# Altium footprint library Connector - FFC_FPC.PcbLib: 57 footprints (part 4 of 4)
Each footprint in its own frame and in the unit in brackets; x right, y up, seen from the top. Pads: shape width x height; smd on the part's side, far side on the other; paste and mask are expansions set on the pad; w line width, h text height; cw(c..) or ccw(c..) is an arc to the next point about the centre after c.
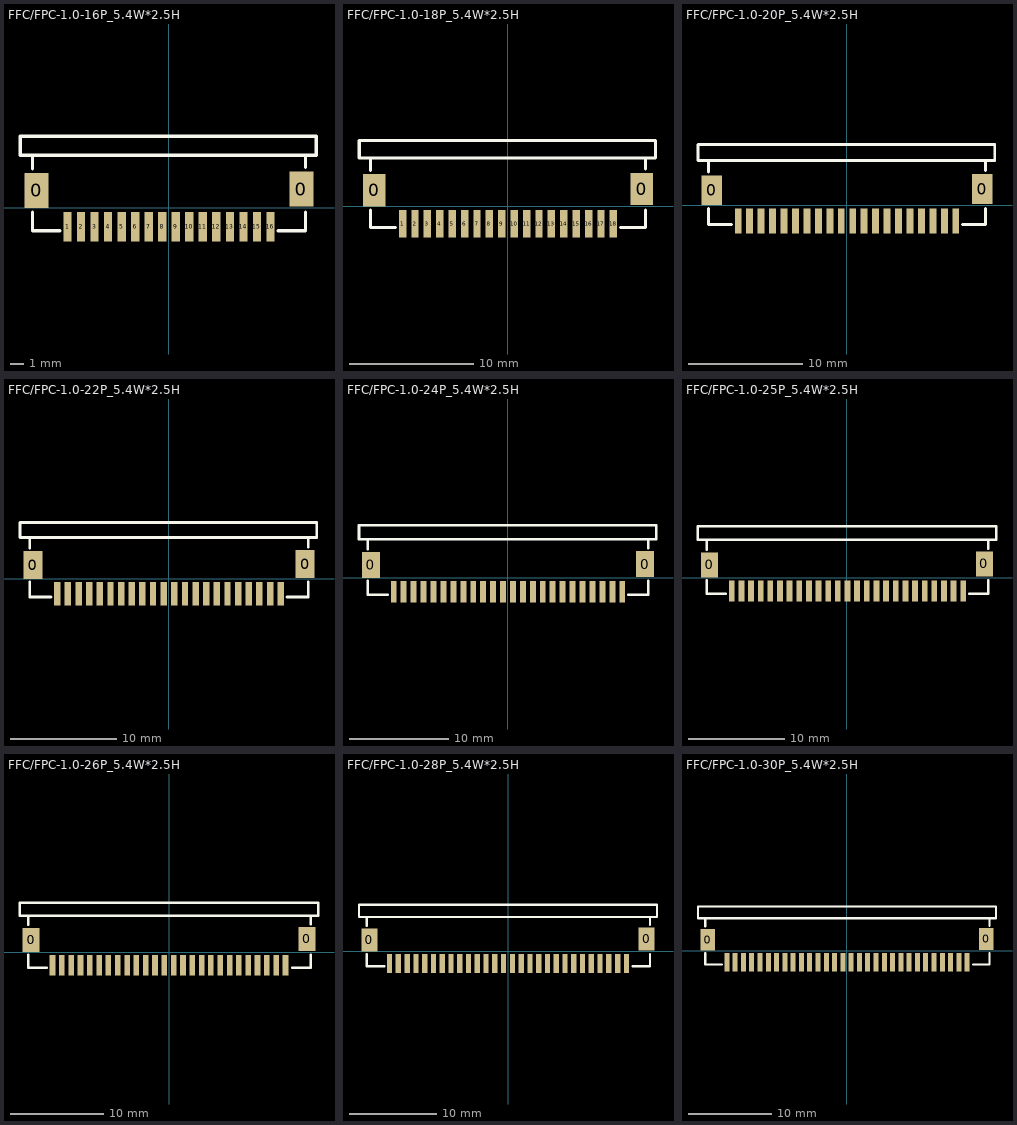
[diagram p3: the footprints below, top view; thin cyan lines are the x and y axes]

## FFC/FPC-1.0-16P_5.4W*2.5H [mm]
pads (18):
  rect 1.8x2.6 smd: 0(-9.8,1.3) 0(9.8,1.4)
  rect 0.6x2.2 smd: 1(-7.5,-1.4) 2(-6.5,-1.4) 3(-5.5,-1.4) 4(-4.5,-1.4) 5(-3.5,-1.4) 6(-2.5,-1.4) 7(-1.5,-1.4) 8(-0.5,-1.4) 9(0.5,-1.4) 10(1.5,-1.4) 11(2.5,-1.4) 12(3.5,-1.4) 13(4.5,-1.4) 14(5.5,-1.4) 15(6.5,-1.4) 16(7.5,-1.4)
Top Overlay:
  lines w0.254: -10.1,-0.3 -10.1,-1.7 -8.1,-1.7 ; -10.1,2.9 -10.1,3.9 ; 8.1,-1.7 10.1,-1.7 10.1,-0.3 ; 10.1,3 10.1,3.9 ; -10.1,3.9 -1.9,3.9 10.9,3.9 10.9,5.3 -3.2,5.3 -8.7,5.3 -11,5.3 -11,3.9 -10.1,3.9

## FFC/FPC-1.0-18P_5.4W*2.5H [mm]
pads (20):
  rect 1.8x2.6 smd: 0(-10.8,1.3) 0(10.8,1.4)
  rect 0.6x2.2 smd: 1(-8.5,-1.4) 2(-7.5,-1.4) 3(-6.5,-1.4) 4(-5.5,-1.4) 5(-4.5,-1.4) 6(-3.5,-1.4) 7(-2.5,-1.4) 8(-1.5,-1.4) 9(-0.5,-1.4) 10(0.5,-1.4) 11(1.5,-1.4) 12(2.5,-1.4) 13(3.5,-1.4) 14(4.5,-1.4) 15(5.5,-1.4) 16(6.5,-1.4) 17(7.5,-1.4) 18(8.5,-1.4)
Top Overlay:
  lines w0.254: -11.1,-0.3 -11.1,-1.7 -9.1,-1.7 ; -11.1,2.9 -11.1,3.9 ; 9.1,-1.7 11.1,-1.7 11.1,-0.3 ; 11.1,3 11.1,3.9 ; -11.1,3.9 -2.9,3.9 11.9,3.9 11.9,5.3 -4.2,5.3 -9.7,5.3 -12,5.3 -12,3.9 -11.1,3.9

## FFC/FPC-1.0-20P_5.4W*2.5H [mm]
pads (22):
  rect 1.8x2.6 smd: 0(-11.8,1.3) 0(11.8,1.4)
  rect 0.6x2.2 smd: 1(-9.5,-1.4) 2(-8.5,-1.4) 3(-7.5,-1.4) 4(-6.5,-1.4) 5(-5.5,-1.4) 6(-4.5,-1.4) 7(-3.5,-1.4) 8(-2.5,-1.4) 9(-1.5,-1.4) 10(-0.5,-1.4) 11(0.5,-1.4) 12(1.5,-1.4) 13(2.5,-1.4) 14(3.5,-1.4) 15(4.5,-1.4) 16(5.5,-1.4) 17(6.5,-1.4) 18(7.5,-1.4) 19(8.5,-1.4) 20(9.5,-1.4)
Top Overlay:
  lines w0.254: -12.1,-0.3 -12.1,-1.7 -10.1,-1.7 ; -12.1,2.9 -12.1,3.9 ; 10.1,-1.7 12.1,-1.7 12.1,-0.3 ; 12.1,3 12.1,3.9 ; -12.1,3.9 -13,3.9 -13,5.3 -10.7,5.3 -5.2,5.3 12.9,5.3 12.9,3.9 -3.9,3.9 -12.1,3.9

## FFC/FPC-1.0-22P_5.4W*2.5H [mm]
pads (24):
  rect 1.8x2.6 smd: 0(-12.8,1.3) 0(12.8,1.4)
  rect 0.6x2.2 smd: 1(-10.5,-1.4) 2(-9.5,-1.4) 3(-8.5,-1.4) 4(-7.5,-1.4) 5(-6.5,-1.4) 6(-5.5,-1.4) 7(-4.5,-1.4) 8(-3.5,-1.4) 9(-2.5,-1.4) 10(-1.5,-1.4) 11(-0.5,-1.4) 12(0.5,-1.4) 13(1.5,-1.4) 14(2.5,-1.4) 15(3.5,-1.4) 16(4.5,-1.4) 17(5.5,-1.4) 18(6.5,-1.4) 19(7.5,-1.4) 20(8.5,-1.4) 21(9.5,-1.4) 22(10.5,-1.4)
Top Overlay:
  lines w0.254: -13.1,-0.3 -13.1,-1.7 -11.1,-1.7 ; -13.1,2.9 -13.1,3.9 ; -6.2,5.3 -4,5.3 ; -4.9,3.9 -4,3.9 ; 11.1,-1.7 13.1,-1.7 13.1,-0.3 ; 13.1,3 13.1,3.9 ; -13.1,3.9 -14,3.9 -14,5.3 -7.7,5.3 -2.2,5.3 13.9,5.3 13.9,3.9 -0.9,3.9 -9.1,3.9 -13.1,3.9

## FFC/FPC-1.0-24P_5.4W*2.5H [mm]
pads (26):
  rect 1.8x2.6 smd: 0(-13.8,1.3) 0(13.8,1.4)
  rect 0.6x2.2 smd: 1(-11.5,-1.4) 2(-10.5,-1.4) 3(-9.5,-1.4) 4(-8.5,-1.4) 5(-7.5,-1.4) 6(-6.5,-1.4) 7(-5.5,-1.4) 8(-4.5,-1.4) 9(-3.5,-1.4) 10(-2.5,-1.4) 11(-1.5,-1.4) 12(-0.5,-1.4) 13(0.5,-1.4) 14(1.5,-1.4) 15(2.5,-1.4) 16(3.5,-1.4) 17(4.5,-1.4) 18(5.5,-1.4) 19(6.5,-1.4) 20(7.5,-1.4) 21(8.5,-1.4) 22(9.5,-1.4) 23(10.5,-1.4) 24(11.5,-1.4)
Top Overlay:
  lines w0.254: -14.1,-0.3 -14.1,-1.7 -12.1,-1.7 ; -14.1,2.9 -14.1,3.9 ; -7.2,5.3 -5,5.3 ; -5.9,3.9 -5,3.9 ; 12.1,-1.7 14.1,-1.7 14.1,-0.3 ; 14.1,3 14.1,3.9 ; -14.1,3.9 -15,3.9 -15,5.3 -8.7,5.3 -3.2,5.3 14.9,5.3 14.9,3.9 -1.9,3.9 -10.1,3.9 -14.1,3.9

## FFC/FPC-1.0-25P_5.4W*2.5H [mm]
pads (27):
  rect 1.8x2.6 smd: 0(-14.25,1.3) 0(14.25,1.4)
  rect 0.6x2.2 smd: 1(-11.95,-1.4) 2(-10.95,-1.4) 3(-9.95,-1.4) 4(-8.95,-1.4) 5(-7.95,-1.4) 6(-6.95,-1.4) 7(-5.95,-1.4) 8(-4.95,-1.4) 9(-3.95,-1.4) 10(-2.95,-1.4) 11(-1.95,-1.4) 12(-0.95,-1.4) 13(0.05,-1.4) 14(1.05,-1.4) 15(2.05,-1.4) 16(3.05,-1.4) 17(4.05,-1.4) 18(5.05,-1.4) 19(6.05,-1.4) 20(7.05,-1.4) 21(8.05,-1.4) 22(9.05,-1.4) 23(10.05,-1.4) 24(11.05,-1.4) 25(12.05,-1.4)
Top Overlay:
  lines w0.254: -14.55,-0.3 -14.55,-1.7 -12.55,-1.7 ; -14.55,2.9 -14.55,3.9 ; -7.65,5.3 -5.45,5.3 ; 6.55,5.3 8.85,5.3 ; 12.65,-1.7 14.65,-1.7 14.65,-0.3 ; 13.25,5.3 15.45,5.3 15.45,3.9 14.55,3.9 -14.55,3.9 ; 14.45,5.3 -3.65,5.3 -9.15,5.3 -15.45,5.3 -15.45,3.9 -14.55,3.9 ; 14.65,3 14.65,3.9

## FFC/FPC-1.0-26P_5.4W*2.5H [mm]
pads (28):
  rect 1.8x2.6 smd: 0(-14.8,1.3) 0(14.8,1.4)
  rect 0.6x2.2 smd: 1(-12.5,-1.4) 2(-11.5,-1.4) 3(-10.5,-1.4) 4(-9.5,-1.4) 5(-8.5,-1.4) 6(-7.5,-1.4) 7(-6.5,-1.4) 8(-5.5,-1.4) 9(-4.5,-1.4) 10(-3.5,-1.4) 11(-2.5,-1.4) 12(-1.5,-1.4) 13(-0.5,-1.4) 14(0.5,-1.4) 15(1.5,-1.4) 16(2.5,-1.4) 17(3.5,-1.4) 18(4.5,-1.4) 19(5.5,-1.4) 20(6.5,-1.4) 21(7.5,-1.4) 22(8.5,-1.4) 23(9.5,-1.4) 24(10.5,-1.4) 25(11.5,-1.4) 26(12.5,-1.4)
Top Overlay:
  lines w0.254: -15.1,-0.3 -15.1,-1.7 -13.1,-1.7 ; -15.1,2.9 -15.1,3.9 ; -8.2,5.3 -6,5.3 ; -6.9,3.9 -6,3.9 ; 6,3.9 6.9,3.9 ; 6,5.3 8.3,5.3 ; 13.2,-1.7 15.2,-1.7 15.2,-0.3 ; 13.8,5.3 16,5.3 16,3.9 15.1,3.9 ; 13.9,5.3 -4.2,5.3 -9.7,5.3 -16,5.3 -16,3.9 -15.1,3.9 ; 15.2,3 15.2,3.9 ; 15.3,3.9 -2.9,3.9 -11.1,3.9 -15.1,3.9

## FFC/FPC-1.0-28P_5.4W*2.5H [mm]
pads (30):
  rect 1.8x2.6 smd: 0(-15.8,1.3) 0(15.8,1.4)
  rect 0.6x2.2 smd: 1(-13.5,-1.4) 2(-12.5,-1.4) 3(-11.5,-1.4) 4(-10.5,-1.4) 5(-9.5,-1.4) 6(-8.5,-1.4) 7(-7.5,-1.4) 8(-6.5,-1.4) 9(-5.5,-1.4) 10(-4.5,-1.4) 11(-3.5,-1.4) 12(-2.5,-1.4) 13(-1.5,-1.4) 14(-0.5,-1.4) 15(0.5,-1.4) 16(1.5,-1.4) 17(2.5,-1.4) 18(3.5,-1.4) 19(4.5,-1.4) 20(5.5,-1.4) 21(6.5,-1.4) 22(7.5,-1.4) 23(8.5,-1.4) 24(9.5,-1.4) 25(10.5,-1.4) 26(11.5,-1.4) 27(12.5,-1.4) 28(13.5,-1.4)
Top Overlay:
  lines w0.254: -16.1,-0.3 -16.1,-1.7 -14.1,-1.7 ; -16.1,2.9 -16.1,3.9 ; -9.2,5.3 -7,5.3 ; -7.9,3.9 -7,3.9 ; 5,3.9 5.9,3.9 ; 5,5.3 7.3,5.3 ; 14.2,-1.7 16.2,-1.7 16.2,-0.3 ; 14.8,5.3 17,5.3 17,3.9 16.1,3.9 ; 15.2,5.3 -5.2,5.3 -10.7,5.3 -17,5.3 -17,3.9 -16.1,3.9 ; 16,3.9 -3.9,3.9 -12.1,3.9 -16.1,3.9 ; 16.2,3 16.2,3.9

## FFC/FPC-1.0-30P_5.4W*2.5H [mm]
pads (32):
  rect 1.8x2.6 smd: 0(-16.8,1.3) 0(16.8,1.4)
  rect 0.6x2.2 smd: 1(-14.5,-1.4) 2(-13.5,-1.4) 3(-12.5,-1.4) 4(-11.5,-1.4) 5(-10.5,-1.4) 6(-9.5,-1.4) 7(-8.5,-1.4) 8(-7.5,-1.4) 9(-6.5,-1.4) 10(-5.5,-1.4) 11(-4.5,-1.4) 12(-3.5,-1.4) 13(-2.5,-1.4) 14(-1.5,-1.4) 15(-0.5,-1.4) 16(0.5,-1.4) 17(1.5,-1.4) 18(2.5,-1.4) 19(3.5,-1.4) 20(4.5,-1.4) 21(5.5,-1.4) 22(6.5,-1.4) 23(7.5,-1.4) 24(8.5,-1.4) 25(9.5,-1.4) 26(10.5,-1.4) 27(11.5,-1.4) 28(12.5,-1.4) 29(13.5,-1.4) 30(14.5,-1.4)
Top Overlay:
  lines w0.254: -17.1,-0.3 -17.1,-1.7 -15.1,-1.7 ; -17.1,2.9 -17.1,3.9 ; -10.2,5.3 -8,5.3 ; -8.9,3.9 -8,3.9 ; 4,3.9 4.9,3.9 ; 4,5.3 6.3,5.3 ; 15.2,-1.7 17.2,-1.7 17.2,-0.3 ; 15.8,5.3 18,5.3 18,3.9 17.1,3.9 ; 15.9,5.3 -6.2,5.3 -11.7,5.3 -18,5.3 -18,3.9 -17.1,3.9 ; 17.2,3 17.2,3.9 -4.9,3.9 -13.1,3.9 -17.1,3.9